# Altium schematic symbol library 5040500491.SchLib: 1 symbol
Pins are listed as number, name and electrical type; pins without a type are passive.

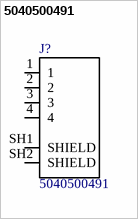
[diagram p0: symbol 5040500491]

## 5040500491
designator J?
Connector Header Surface Mount, Right Angle 4 position 0.059 _1.50mm_; MF: Molex; Digi-Key_Part_Number: WM10137CT-ND; Digi-Key_Purchase_URL: https://www.digikey.com/product-detail/en/molex/5040500491/WM10137CT-ND/4357653?utm_source=snapeda&utm_medium=aggregator&utm_campaign=symbol; MP: 5040500491; Package: None; SnapEDA_Link: https://www.snapeda.com/parts/5040500491/Molex/view-part/2346854/?ref=snap; Value: *
footprint *MOLEX_5040500491_5040500491(Primary)
pins: 1, 2, 3, 4, SH1 SHIELD (power), SH2 SHIELD (power)